# Altium schematic symbol library STM32F038E6Y6TR.SchLib: 1 symbol
Pins are listed as number, name and electrical type; pins without a type are passive.

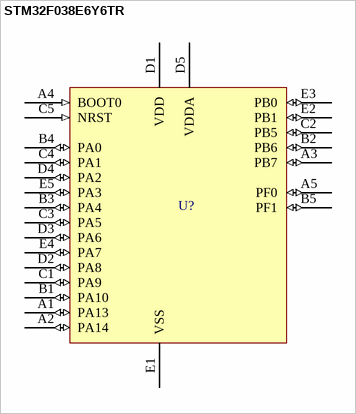
[diagram p0: symbol STM32F038E6Y6TR]

## STM32F038E6Y6TR
designator U?  (value not drawn)
Mainstream Arm Cortex-M0 Low-voltage line 1,8V MCU with 32 Kbytes of Flash memory, 48 MHz CPU, USB, CAN and CEC functions
pins: A1 PA13 (io), A2 PA14 (io), A3 PB7 (io), A4 BOOT0 (in), A5 PF0 (io), B1 PA10 (io), B2 PB6 (io), B3 PA4 (io), B4 PA0 (io), B5 PF1 (io), C1 PA9 (io), C2 PB5 (io), C3 PA5 (io), C4 PA1 (io), C5 NRST (in), D1 VDD (power), D2 PA8 (io), D3 PA6 (io), D4 PA2 (io), D5 VDDA (power), E1 VSS (power), E2 PB1 (io), E3 PB0 (io), E4 PA7 (io), E5 PA3 (io)